# EAGLE library part MIC29302WU (library SamacSys_Parts)
3.0A LDO Adj. + Shutdown, MIC29302WU Micrel MIC29302WU, LDO Voltage Regulator, Adjustable 3A, 1.25 26 V +/-1%, 6-Pin TO-263 Source: Datasheet <https://componentsearchengine.com/Datasheets/1/MIC29302WU.pdf>
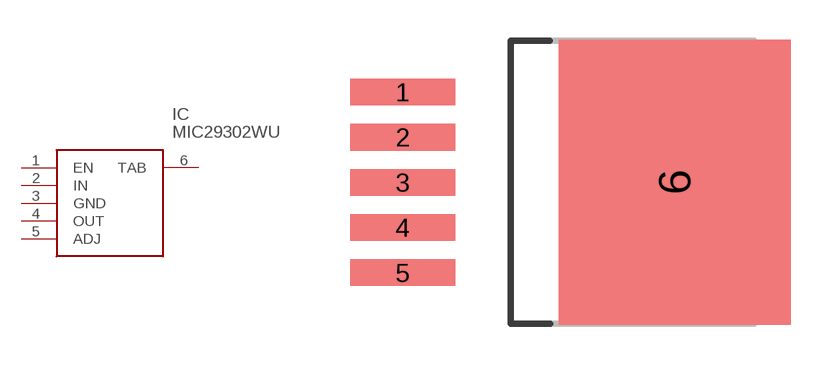
[diagram p2: symbol with the pads of 6-PIN-TO-263; footprint 6-PIN-TO-263]

Designator prefix IC

## MIC29302WU (DESCRIPTION: 3.0A LDO Adj. + Shutdown, MIC29302WU Micrel MIC29302WU, LDO Voltage Regulator, Adjustable 3A, 1.25 26 V +/-1%, 6-Pin TO-263; HEIGHT: mm; MANUFACTURER_NAME: Microchip; MANUFACTURER_PART_NUMBER: MIC29302WU; MOUSER_PART_NUMBER: 998-MIC29302WU; MOUSER_PRICE-STOCK: https://www.mouser.com/Search/Refine.aspx?Keyword=998-MIC29302WU)  [6-PIN-TO-263]
1  EN
2  IN
3  GND
4  OUT
5  ADJ
6  TAB

## Footprint 6-PIN-TO-263 (pad centres in mm)
6-pin-TO-263
smd 3.95 x 1: 1 -13.25,-1.93; 2 -13.25,-3.632; 3 -13.25,-5.334; 4 -13.25,-7.036; 5 -13.25,-8.738
smd 8.75 x 10.75: 6 -3,-5.334